# Altium schematic symbol library mySCHLib (AirPC's conflicted copy 2014-06-14).SchLib: 37 symbols
Pins are listed as number, name and electrical type; pins without a type are passive.

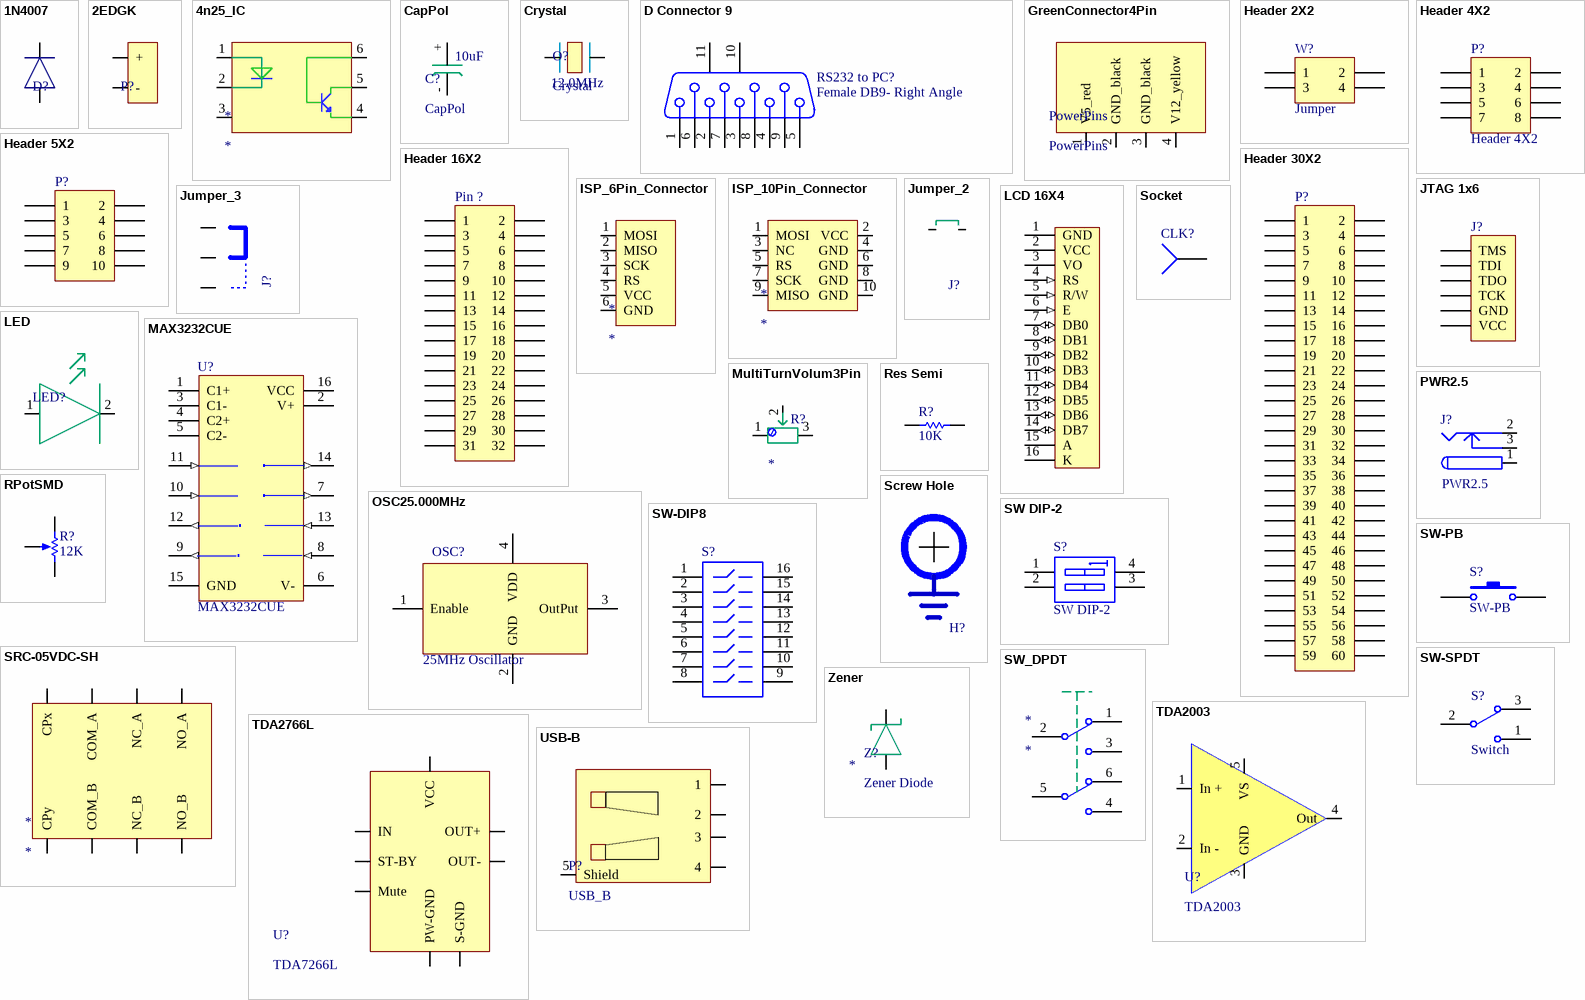
[diagram p0: symbols 1N4007 to Zener]

## 1N4007
designator D?, comment Diode  (value not drawn)
footprint Diode-M7
pins: A, K

## 2EDGK
designator P?  (value not drawn)
footprint 22EDGK (2 pin green connector)
pins: +, -

## 4n25_IC
designator *
footprint DIP6
pins: 1, 2, 3, 4, 5, 6

## CapPol
designator C?  value 10uF
Electrolit Capasitor
footprint ELECTROLYTIC_CAP_TYPE_C
pins: +, -

## Crystal
designator O?  value 12.0MHz
footprint Crystal Axial 0.2
pins: 1, 2

## D Connector 9
designator RS232 to PC?, comment Female DB9- Right Angle
Receptacle Assembly, 9 Position, Right Angle; PackageDocument: O; Positions: 9; Published: 15-Jun-2001; LatestRevisionDate: 17-Jul-2002; LatestRevisionNote: Re-released for DXP Platform.; DatasheetDocument: 1-Sep-1999; PackageReference: 788750; Publisher: Altium Limited; Orientation: Right Angle; Gender: Receptacle
signal-integrity model Connector
footprint DSUBF1.385-2H9 (Connector; Female D Subminiature; 9 Position; Right Angle; Pitch 1.385 mm)
footprint DSUBM1.385-2H9 (Connector; Male D Subminiature; 9 Position; Right Angle; Pitch 1.385 mm)
pins: 1, 2, 3, 4, 5, 6, 7, 8, 9, 10 MH1, 11 MH2

## GreenConnector4Pin
designator PowerPins, comment PowerPins
footprint GreenConnector4
pins: 1 V5_red "5 Volt Supply", 2 GND_black "GND", 3 GND_black "GND", 4 V12_yellow "12 Volt Supply"

## Header 2X2
designator W?, comment Jumper
Header, 2-Pin, Dual row; LatestRevisionDate: 17-Jul-2002; LatestRevisionNote: Re-released for DXP Platform.; Publisher: Altium Limited
footprint HDR2X2 (Connector; Header; 2x2 Position)
signal-integrity model Connector
pins: 1, 2, 3, 4

## Header 4X2
designator P?
Header, 4-Pin, Dual row; LatestRevisionDate: 17-Jul-2002; LatestRevisionNote: Re-released for DXP Platform.; Publisher: Altium Limited
signal-integrity model Connector
footprint HDR2X4
footprint HDR2X4H
pins: 1, 2, 3, 4, 5, 6, 7, 8

## Header 5X2
designator P?  (value not drawn)
Header, 5-Pin, Dual row; LatestRevisionDate: 17-Jul-2002; LatestRevisionNote: Re-released for DXP Platform.; Publisher: Altium Limited
signal-integrity model Connector
footprint HDR2X5-RA
footprint HDR2X5-ST
pins: 1, 2, 3, 4, 5, 6, 7, 8, 9, 10

## Header 16X2
designator Pin ?, comment Header 16X2, Male  (value not drawn)
Header, 16-Pin, Dual row; LatestRevisionDate: 17-Jul-2002; LatestRevisionNote: Re-released for DXP Platform.; Publisher: Altium Limited
footprint HDR2X16 (Connector; Header; 16x2 Position)
signal-integrity model Connector
footprint HDR2X16-ST-FEMALE
pins: 1, 2, 3, 4, 5, 6, 7, 8, 9, 10, 11, 12, 13, 14, 15, 16, 17, 18, 19, 20, 21, 22, 23, 24, 25, 26, 27, 28, 29, 30, 31, 32

## Header 30X2
designator P?  (value not drawn)
Header, 30-Pin, Dual row; LatestRevisionDate: 17-Jul-2002; LatestRevisionNote: Re-released for DXP Platform.; Publisher: Altium Limited
signal-integrity model Connector
footprint HDR2X30_RA
footprint HDR2X30_ST
pins: 1, 2, 3, 4, 5, 6, 7, 8, 9, 10, 11, 12, 13, 14, 15, 16, 17, 18, 19, 20, 21, 22, 23, 24, 25, 26, 27, 28, 29, 30, 31, 32, 33, 34, 35, 36, 37, 38, 39, 40, 41, 42, 43, 44, 45, 46, 47, 48, 49, 50, 51, 52, 53, 54, 55, 56, 57, 58, 59, 60

## ISP_6Pin_Connector
designator *
footprint ISP_6pin_Connector
pins: 1 MOSI, 2 MISO, 3 SCK, 4 RS, 5 VCC, 6 GND

## ISP_10Pin_Connector
designator *
footprint ISP_10pin_Connector
pins: 1 MOSI, 2 VCC, 3 NC, 4 GND, 5 RS, 6 GND, 7 SCK, 8 GND, 9 MISO, 10 GND

## JTAG 1x6
designator J?, comment JTAG-Header, 6-Pin  (value not drawn)
Header, 6-Pin; LatestRevisionDate: 17-Jul-2002; LatestRevisionNote: Re-released for DXP Platform.; Publisher: Altium Limited
signal-integrity model Connector
footprint JTAG_1x6 (JTAG 1x6 Pin)
pins: 1 TMS, 2 TDI, 3 TDO, 4 TCK, 5 GND, 6 VCC

## Jumper_2
designator J?, comment Jumper - 2 pin  (value not drawn)
2 pin Jumper Wire; Manufacturer: Generic Components; Published: 1999
footprint JUMPER2
pins: 1, 2

## Jumper_3
designator J?, comment Jumper - 3 Pin  (value not drawn)
3 Pin Jumper Wire; Manufacturer: Generic Components; Published: 1999
footprint My_1X03
footprint JUMPER3
pins: 1, 2, 3

## LCD 16X4
designator LCD?  (value not drawn)
LCD 16X4 Character lcd
footprint JDH164A
pins: 1 GND (power), 2 VCC (power), 3 VO, 4 RS (in), 5 R/W (in), 6 E (in), 7 DB0 (io), 8 DB1 (io), 9 DB2 (io), 10 DB3 (io), 11 DB4 (io), 12 DB5 (io), 13 DB6 (io), 14 DB7 (io), 15 A, 16 K

## LED
designator LED?  (value not drawn)
LED 3mm
footprint LED_3mm
pins: 1, 2

## MAX3232CUE
designator U?
3.0V TO 5.5V, Low-Power, up to 1Mbps, True RS-232 Transceiver Using Four 0.1µF External Capacitor; Published: 16-Jan-2001; LatestRevisionDate: 06-Jun-2005; LatestRevisionNote: Stylized 3D Model Added.; DatasheetVersion: Mar-1999; PackageVersion: 21-0066 C; PackageReference: TSSOP16; Publisher: Altium Limited; PackageDescription: Shrink Small Outline; 16 Leads; Body Width 4.4 mm; Pitch 0.65 mm; ComponentLink1Description: Manufacturer Link; ComponentLink1URL: http://www.maxim-ic.com/; ComponentLink2Description: Datasheet; ComponentLink2URL: http://pdfserv.maxim-ic.com/en/ds/MAX3222-MAX3241.pdf
footprint TSSOP16_M (TSOP, 16-Leads, Body 5x4.4mm, Pitch 0.65mm, IPC Low Density)
footprint SOIC16_M (SOIC, 16-Leads, Body 9.9x3.9mm, Pitch 1.27mm, IPC Low Density)
pins: 1 C1+, 2 V+ (power), 3 C1-, 4 C2+, 5 C2-, 6 V- (power), 7 T2OUT (out), 8 R2IN (in), 9 R2OUT (out), 10 T2IN (in), 11 T1IN (in), 12 R1OUT (out), 13 R1IN (in), 14 T1OUT (out), 15 GND (power), 16 VCC (power)

## MultiTurnVolum3Pin
designator R?
Multiturn potentiometer; Value: *
footprint OneLine3
pins: 1, 2, 3

## OSC25.000MHz
designator OSC?, comment 25MHz Oscillator
Temperature Compensated Crystal Oscillator
footprint OSC25.0MHz (Clock Oscillator, SM; 4 Leads; Body 7 x 5.0 x 1.3 mm (LxWxH))
pins: 1 Enable, 2 GND (power) "Ground", 3 OutPut "Enable", 4 VDD (power) "Power"

## PWR2.5
designator J?
Low Voltage Power Supply Connector; Published: 17-Dec-2003; DatasheetDocument: 09-May-2002; Publisher: Altium Limited; ComponentLink1Description: Manufacturer Link; ComponentLink1URL: http://domino.kycon.com/internet/Products.html
signal-integrity model Connector
footprint KLD-0202
pins: 1 (power), 2 (power), 3 (power)

## Res Semi
designator R?  value 10K  (hidden comment: Res Semi)
Semiconductor Resistor; Published: 8-Jun-2000; LatestRevisionDate: 17-Jul-2002; LatestRevisionNote: Re-released for DXP Platform.; PackageReference: AXIAL-0.5; Publisher: Altium Limited
footprint AXIAL-0.5 (Semiconductor Resistor; 2 Leads)
footprint 1005[0402] (Chip Resistor; Body 1.1 x 0.5 mm (LxW typ))
footprint 1608[0603] (Chip Resistor; Body 1.6 x 0.8 mm (LxW typ))
footprint 2012[0805] (Chip Resistor; Body 2.0 x 1.3 mm (LxW typ))
footprint 3216[1206] (Chip Resistor; Body 3.2 x 1.6 mm (LxW typ))
simulation model RES (Semiconductor Resistor)
signal-integrity model Res Semi
pins: 1, 2

## RPotSMD
designator R?  value 12K  (hidden comment: RPotSMD)
Potentiometer; Sim Note: Enter the Resistance value and the set point into parameter fields.; Set Position: 0.5; Published: 8-Jun-2000; LatestRevisionDate: 17-Jul-2002; LatestRevisionNote: Re-released for DXP Platform.; PackageReference: VR5; Publisher: Altium Limited
simulation model POT (Potentiometer)
footprint My_Pot
pins: 1 TOP, 2 BOT, 3 TAP
1 alternate drawing of the same symbol

## Screw Hole
designator H?  (value not drawn)
footprint Screw3.5
pins: 1 GND (power) hidden to GND "Ground"

## Socket
designator CLK?  (value not drawn)
LatestRevisionDate: 17-Jul-2002; LatestRevisionNote: Re-released for DXP Platform.; Publisher: Altium Limited
footprint PIN1 (Connector; Socket)
signal-integrity model Connector
pins: 1

## SRC-05VDC-SH
designator *
footprint SRC-05VDC-SH (Tele-Comunication Relay)
pins: COM_A, COM_B, CPx, CPy, NC_A, NC_B, NO_A, NO_B

## SW DIP-2
designator S?
DIP Switch, 2 Position, SPST; Published: 24-Mar-1999; LatestRevisionDate: 17-Jul-2002; LatestRevisionNote: Re-released for DXP Platform.; PackageReference: DIP-4; Publisher: Altium Limited
simulation model dpsw2 (Spice Subcircuit)
footprint DIPSWITCH-4 (DIP; 4 Leads; Row Spacing 7.62 mm; Pitch 2.54 mm)
pins: 1 A1, 2 A2, 3 B2, 4 B1

## SW-DIP8
designator S?  (value not drawn)
4009 Series DIP Switch, Raised actuator; Published: 24-Mar-1999; LatestRevisionDate: 17-Dec-2003; LatestRevisionNote: PCB Footprint replaced.; PackageReference: DIP-16-KEY; Publisher: Altium Limited; ComponentLink1Description: Manufacturer Link; ComponentLink1URL: http://www.oupiin.com/prodindx.html#Headers
simulation model dpsw8 (Spice Subcircuit)
footprint DIPSWITCH-16 (DIP; 16 Leads; Row Spacing 7.62 mm; Pitch 2.54 mm)
pins: 1, 2, 3, 4, 5, 6, 7, 8, 9, 10, 11, 12, 13, 14, 15, 16

## SW-PB
designator S?
Switch; Published: 24-Mar-1999; LatestRevisionDate: 17-Jul-2002; LatestRevisionNote: Re-released for DXP Platform.; PackageReference: SPST-2; Publisher: Altium Limited
footprint PUSH_BUTTON
pins: 1, 2

## SW-SPDT
designator S?, comment Switch
SPDT Subminiature Toggle Switch, Right Angle Mounting, Vertical Actuation; Published: 24-Mar-1999; LatestRevisionDate: 17-Dec-2003; LatestRevisionNote: Schematic revised, PCB Footprint replaced.; DatasheetDocument: 05-Dec-2000; PackageReference: TL36WW15050; Publisher: Altium Limited; ComponentLink1Description: Manufacturer Link; ComponentLink1URL: http://www.apem.com
footprint 2_STATE_SWITCH
pins: 1, 2, 3

## SW_DPDT
designator *
footprint SW_DPDT
pins: 1, 2, 3, 4, 5, 6

## TDA2003
designator U?
TDA2003 Audio Amplifier
footprint Pentawatt V
pins: 1 In + "Non-Inverting Input", 2 In - "Inverting Input", 3 GND "Ground", 4 Out "Output", 5 VS "Supply Voltage"

## TDA2766L
designator U?, comment TDA7266L
footprint TDA7266L-SleepLeft
footprint TDA7266L-SleepRight
footprint TDA7266L-Stand
pins: 3 Mute, 4 ST-BY, 5 PW-GND, 6 S-GND, 7 IN, 8 VCC, 9 OUT-, 10 OUT+

## USB-B
designator P?, comment USB_B
USB port type B
footprint USB_B
pins: 1, 2, 3, 4, 5 Shield

## Zener
designator Z?, comment Zener Diode
Value: *
footprint Zener-SMD
pins: A, K